# Altium schematic symbol library RES_SMD.SchLib: 8 symbols
Pins are listed as number, name and electrical type; pins without a type are passive.

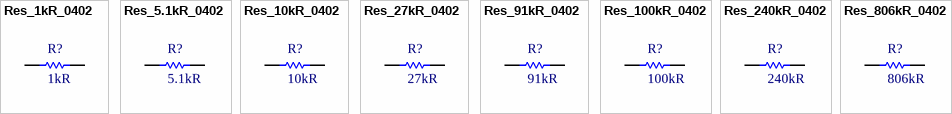
[diagram p0: symbols Res_1kR_0402 to Res_806kR_0402]

## Res_1kR_0402
designator R?, comment 1kR
Package: 0402; Resistans: 1kR
footprint RES_0402
pins: 1, 2

## Res_5.1kR_0402
designator R?, comment 5.1kR
Resistans: 1kR; Package: 0402
footprint RES_0402
pins: 1, 2

## Res_10kR_0402
designator R?, comment 10kR
Resistans: 1kR; Package: 0402
footprint RES_0402
pins: 1, 2

## Res_27kR_0402
designator R?, comment 27kR
Resistans: 1kR; Package: 0402
footprint RES_0402
pins: 1, 2

## Res_91kR_0402
designator R?, comment 91kR
Resistans: 1kR; Package: 0402
footprint RES_0402
pins: 1, 2

## Res_100kR_0402
designator R?, comment 100kR
Resistans: 1kR; Package: 0402
footprint RES_0402
pins: 1, 2

## Res_240kR_0402
designator R?, comment 240kR
Resistans: 1kR; Package: 0402
footprint RES_0402
pins: 1, 2

## Res_806kR_0402
designator R?, comment 806kR
Resistans: 1kR; Package: 0402
footprint RES_0402
pins: 1, 2